# Altium footprint library Core3506.PcbLib: 1 footprints
Each footprint in its own frame and in the unit in brackets; x right, y up, seen from the top. Pads: shape width x height; smd on the part's side, far side on the other; paste and mask are expansions set on the pad; w line width, h text height; cw(c..) or ccw(c..) is an arc to the next point about the centre after c.
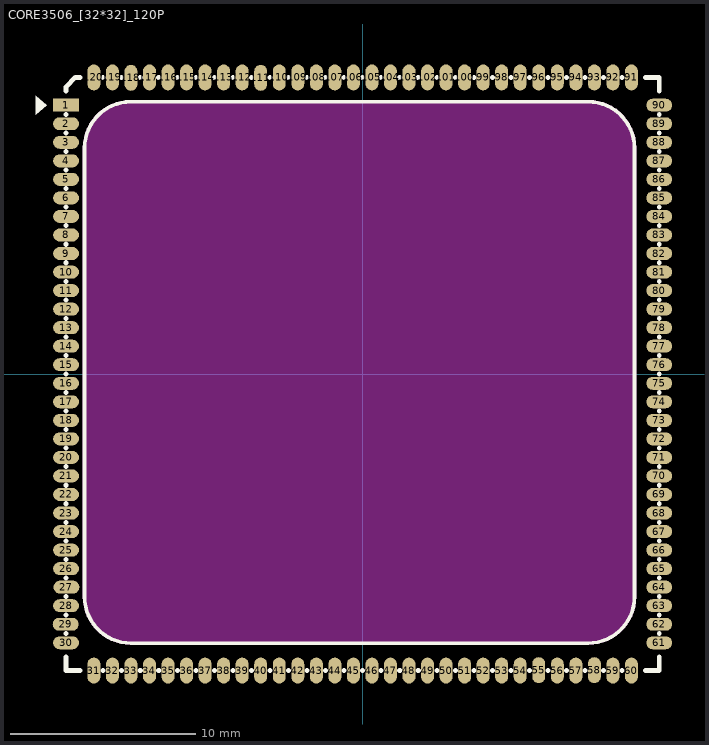
[diagram p0: the footprint, top view; thin cyan lines are the x and y axes]

## CORE3506_[32*32]_120P [mm]
pads (120):
  rect 1.397x0.7 smd mask+0.051: 1(-16,14.5)
  oval 1.397x0.7 smd mask+0.051: 2(-16,13.5) 3(-16,12.5) 4(-16,11.5) 5(-16,10.5) 6(-16,9.5) 7(-16,8.5) 8(-16,7.5) 9(-16,6.5) 10(-16,5.5) 11(-16,4.5) 12(-16,3.5) 13(-16,2.5) 14(-16,1.5) 15(-16,0.5) 16(-16,-0.5) 17(-16,-1.5) 18(-16,-2.5) 19(-16,-3.5) 20(-16,-4.5) 21(-16,-5.5) 22(-16,-6.5) 23(-16,-7.5) 24(-16,-8.5) 25(-16,-9.5) 26(-16,-10.5) 27(-15.978,-11.5) 28(-16,-12.5) 29(-16.022,-13.5) 30(-16,-14.5) 61(16,-14.5) 62(16,-13.5) 63(16,-12.5) 64(16,-11.5) 65(16,-10.5) 66(16,-9.5) 67(16,-8.5) 68(16,-7.5) 69(16,-6.5) 70(16,-5.5) 71(16,-4.5) 72(16,-3.5) 73(16,-2.5) 74(16,-1.5) 75(16,-0.5) 76(16,0.5) 77(16,1.5) 78(16,2.5) 79(16,3.5) 80(16,4.5) 81(16,5.5) 82(16,6.5) 83(16,7.5) 84(16,8.5) 85(16,9.5) 86(16,10.5) 87(16,11.5) 88(16,12.5) 89(16,13.5) 90(16,14.5)
  oval 0.7x1.397 smd mask+0.051: 31(-14.5,-16) 32(-13.5,-16) 33(-12.5,-16) 34(-11.5,-16) 35(-10.5,-16) 36(-9.5,-16) 37(-8.5,-16) 38(-7.5,-16) 39(-6.5,-16) 40(-5.5,-16) 41(-4.5,-16) 42(-3.5,-16) 43(-2.5,-16) 44(-1.5,-16) 45(-0.5,-16) 46(0.5,-16) 47(1.5,-16) 48(2.5,-16) 49(3.5,-16) 50(4.5,-16) 51(5.5,-16) 52(6.5,-16) 53(7.5,-16) 54(8.5,-16) 55(9.5,-15.978) 56(10.5,-16) 57(11.5,-16) 58(12.5,-15.978) 59(13.5,-16) 60(14.5,-16) 91(14.5,16) 92(13.5,16) 93(12.5,16) 94(11.5,16) 95(10.5,16) 96(9.5,16) 97(8.5,16) 98(7.5,16) 99(6.5,16) 100(5.5,16) 101(4.5,16) 102(3.5,16) 103(2.5,16) 104(1.5,16) 105(0.5,16) 106(-0.5,16) 107(-1.5,16) 108(-2.5,16) 109(-3.5,16) 110(-4.5,16) 111(-5.5,15.978) 112(-6.5,16) 113(-7.5,16) 114(-8.5,16) 115(-9.5,16) 116(-10.5,16) 117(-11.5,16) 118(-12.5,15.978) 119(-13.5,16) 120(-14.5,16)
Top Overlay:
  region: -17.633,15.005 -17.033,14.496 -17.633,13.995
  lines w0.2: -15.001,-12.019 ccw(c-12.501,-12.019) -12.501,-14.519 12.166,-14.519 ccw(c12.166,-12.019) 14.666,-12.019 14.666,12.191 ccw(c12.166,12.191) 12.166,14.691 -12.501,14.691 ccw(c-12.501,12.191) -15.001,12.191 -15.001,-12.019
  lines w0.254: -16,-15.25 -16,-16 -15.25,-16 ; -16,-14.01 -16,-13.99 ; -16,-13.01 -16,-12.99 ; -16,-12.01 -16,-11.99 ; -16,-11.01 -16,-10.99 ; -16,-10.01 -16,-9.99 ; -16,-9.01 -16,-8.99 ; -16,-8.01 -16,-7.99 ; -16,-7.01 -16,-6.99 ; -16,-6.01 -16,-5.99 ; -16,-5.01 -16,-4.99 ; -16,-4.01 -16,-3.99 ; -16,-3.01 -16,-2.99 ; -16,-2.01 -16,-1.99 ; -16,-1.01 -16,-0.99 ; -16,-0.01 -16,0.01 ; -16,0.99 -16,1.01 ; -16,1.99 -16,2.01 ; -16,2.99 -16,3.01 ; -16,3.99 -16,4.01 ; -16,4.99 -16,5.01 ; -16,5.99 -16,6.01 ; -16,6.99 -16,7.01 ; -16,7.99 -16,8.01 ; -16,8.99 -16,9.01 ; -16,9.99 -16,10.01 ; -16,10.99 -16,11.01 ; -16,11.99 -16,12.01 ; -16,12.99 -16,13.01 ; -16,13.99 -16,14.01 ; -16,15.25 -16,15.5 -15.5,16 -15.25,16 ; -14.01,-16 -13.99,-16 ; -14.01,16 -13.99,16 ; -13.01,-16 -12.99,-16 ; -13.01,16 -12.99,16 ; -12.01,-16 -11.99,-16 ; -12.01,16 -11.99,16 ; -11.01,-16 -10.99,-16 ; -11.01,16 -10.99,16 ; -10.01,-16 -9.99,-16 ; -10.01,16 -9.99,16 ; -9.01,-16 -8.99,-16 ; -9.01,16 -8.99,16 ; -8.01,-16 -7.99,-16 ; -8.01,16 -7.99,16 ; -7.01,-16 -6.99,-16 ; -7.01,16 -6.99,16 ; -6.01,-16 -5.99,-16 ; -6.01,16 -5.99,16 ; -5.01,-16 -4.99,-16 ; -5.01,16 -4.99,16 ; -4.01,-16 -3.99,-16 ; -4.01,16 -3.99,16 ; -3.01,-16 -2.99,-16 ; -3.01,16 -2.99,16 ; -2.01,-16 -1.99,-16 ; -2.01,16 -1.99,16 ; -1.01,-16 -0.99,-16 ; -1.01,16 -0.99,16 ; -0.01,-16 0.01,-16 ; -0.01,16 0.01,16 ; 0.99,-16 1.01,-16 ; 0.99,16 1.01,16 ; 1.99,-16 2.01,-16 ; 1.99,16 2.01,16 ; 2.99,-16 3.01,-16 ; 2.99,16 3.01,16 ; 3.99,-16 4.01,-16 ; 3.99,16 4.01,16 ; 4.99,-16 5.01,-16 ; 4.99,16 5.01,16 ; 5.99,-16 6.01,-16 ; 5.99,16 6.01,16 ; 6.99,-16 7.01,-16 ; 6.99,16 7.01,16 ; 7.99,-16 8.01,-16 ; 7.99,16 8.01,16 ; 8.99,-16 9.01,-16 ; 8.99,16 9.01,16 ; 9.99,-16 10.01,-16 ; 9.99,16 10.01,16 ; 10.99,-16 11.01,-16 ; 10.99,16 11.01,16 ; 11.99,-16 12.01,-16 ; 11.99,16 12.01,16 ; 12.99,-16 13.01,-16 ; 12.99,16 13.01,16 ; 13.99,-16 14.01,-16 ; 13.99,16 14.01,16 ; 15.25,-16 16,-16 16,-15.25 ; 15.25,16 16,16 16,15.25 ; 16,-14.01 16,-13.99 ; 16,-13.01 16,-12.99 ; 16,-12.01 16,-11.99 ; 16,-11.01 16,-10.99 ; 16,-10.01 16,-9.99 ; 16,-9.01 16,-8.99 ; 16,-8.01 16,-7.99 ; 16,-7.01 16,-6.99 ; 16,-6.01 16,-5.99 ; 16,-5.01 16,-4.99 ; 16,-4.01 16,-3.99 ; 16,-3.01 16,-2.99 ; 16,-2.01 16,-1.99 ; 16,-1.01 16,-0.99 ; 16,-0.01 16,0.01 ; 16,0.99 16,1.01 ; 16,1.99 16,2.01 ; 16,2.99 16,3.01 ; 16,3.99 16,4.01 ; 16,4.99 16,5.01 ; 16,5.99 16,6.01 ; 16,6.99 16,7.01 ; 16,7.99 16,8.01 ; 16,8.99 16,9.01 ; 16,9.99 16,10.01 ; 16,10.99 16,11.01 ; 16,11.99 16,12.01 ; 16,12.99 16,13.01 ; 16,13.99 16,14.01
Bottom Overlay:
  region: -17.633,13.995 -17.033,14.505 -17.633,15.005
  lines w0.2: -15.001,-12.019 ccw(c-12.501,-12.019) -12.501,-14.519 12.166,-14.519 ccw(c12.166,-12.019) 14.666,-12.019 14.666,12.191 ccw(c12.166,12.191) 12.166,14.691 -12.501,14.691 ccw(c-12.501,12.191) -15.001,12.191 -15.001,-12.019
Keep-Out Layer:
  board cut-out: -15.001,-11.999 -15.001,12.191 -15.001,12.437 -14.905,12.92 -14.717,13.375 -14.443,13.785 -14.095,14.133 -13.686,14.407 -13.231,14.595 -12.748,14.691 -12.501,14.691 12.166,14.691 12.412,14.691 12.895,14.595 13.35,14.407 13.759,14.133 14.108,13.785 14.381,13.375 14.57,12.92 14.666,12.437 14.666,12.191 14.666,-12.019 14.666,-12.265 14.57,-12.748 14.381,-13.203 14.108,-13.612 13.759,-13.961 13.35,-14.234 12.895,-14.423 12.412,-14.519 12.166,-14.519 -12.501,-14.519 -12.748,-14.519 -13.231,-14.423 -13.686,-14.234 -14.095,-13.961 -14.443,-13.612 -14.717,-13.203 -14.905,-12.748 -15.001,-12.265 -15.001,-12.019
  board cut-out: -15.001,-11.999 -15.001,12.191 -15.001,12.437 -14.905,12.92 -14.717,13.375 -14.443,13.785 -14.095,14.133 -13.686,14.407 -13.231,14.595 -12.748,14.691 -12.501,14.691 12.166,14.691 12.412,14.691 12.895,14.595 13.35,14.407 13.759,14.133 14.108,13.785 14.381,13.375 14.57,12.92 14.666,12.437 14.666,12.191 14.666,-12.019 14.666,-12.265 14.57,-12.748 14.381,-13.203 14.108,-13.612 13.759,-13.961 13.35,-14.234 12.895,-14.423 12.412,-14.519 12.166,-14.519 -12.501,-14.519 -12.748,-14.519 -13.231,-14.423 -13.686,-14.234 -14.095,-13.961 -14.443,-13.612 -14.717,-13.203 -14.905,-12.748 -15.001,-12.265 -15.001,-12.019
Keep-Out Layer:
  lines w0.2: -15.001,-12.019 ccw(c-12.501,-12.019) -12.501,-14.519 ; -15.001,-11.999 -15.001,12.191 cw(c-12.501,12.191) -12.501,14.691 12.166,14.691 cw(c12.166,12.191) 14.666,12.191 14.666,-12.019 cw(c12.166,-12.019) 12.166,-14.519 -12.481,-14.519
3D body "Core3506.step": height 3.11, standoff -1.14, extent -16,-16 16,16